# EAGLE library part AFE4404 (library CustomLibrary)
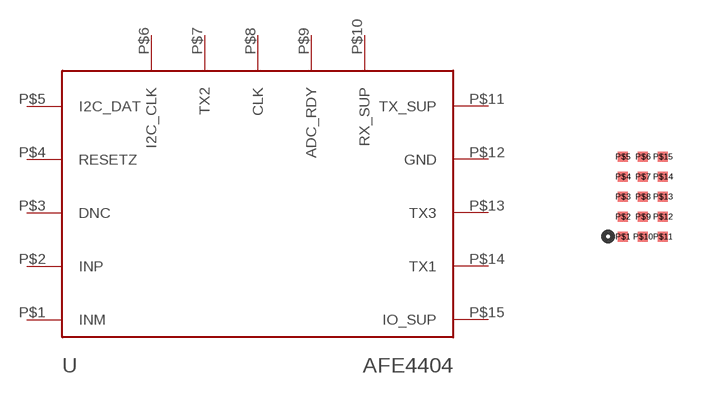
[diagram p1: symbol with the pads of AFE4404; footprint AFE4404]

Designator prefix -

## AFE4404YZPR  [AFE4404]
P$1  INM
P$2  INP
P$3  DNC
P$4  RESETZ
P$5  I2C_DAT
P$6  I2C_CLK
P$7  TX2
P$8  CLK
P$9  ADC_RDY
P$10  RX_SUP
P$11  TX_SUP
P$12  GND
P$13  TX3
P$14  TX1
P$15  IO_SUP

## Footprint AFE4404 (pad centres in mm)
smd 0.25 x 0.25: P$1 0,0; P$2 0,0.5; P$3 0,1; P$4 0,1.5; P$5 0,2; P$6 0.5,2; P$7 0.5,1.5; P$8 0.5,1; P$9 0.5,0.5; P$10 0.5,0; P$11 1,0; P$12 1,0.5; P$13 1,1; P$14 1,1.5; P$15 1,2